# EAGLE library part 722-842/039-000 (library con-wago_7.5mm)
Serie 722, Federleiste mit Verriegelungsklinken / Series 722, Female connector with locking levers Polzahl / Pole No.: 12 Farbe / Color: lichtgrau / light gray Stand: 01.01.2012. Die jeweils aktuellen Daten zu diesem Artikel finden Sie in unserem Produktkatalog, den Sie unter www.wago.com einsehen können. As of: 01/01/2012. Please find the newest data for this article in our product catalogue, which can be viewed under www.wago.com.
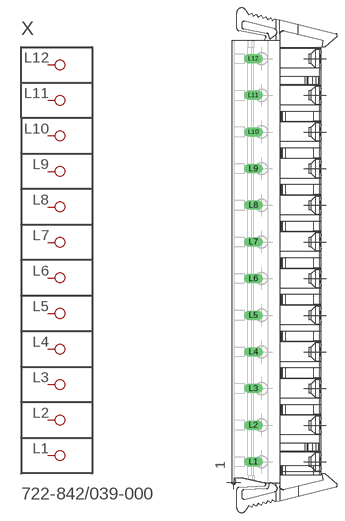
[diagram p53: symbol with the pads of P-722-842/039-000; footprint P-722-842/039-000]

Designator prefix X

## 722-842/039-000  [P-722-842/039-000]
L1  P1
L2  P2
L3  P3
L4  P4
L5  P5
L6  P6
L7  P7
L8  P8
L9  P9
L10  P10
L11  P11
L12  P12

## Footprint P-722-842/039-000 (pad centres in mm)
drill 1.3 long: L1 -5.872,-41.25; L2 -5.872,-33.75; L3 -5.872,-26.25; L4 -5.872,-18.75; L5 -5.872,-11.25; L6 -5.872,-3.75; L7 -5.872,3.75; L8 -5.872,11.25; L9 -5.872,18.75; L10 -5.872,26.25; L11 -5.872,33.75; L12 -5.872,41.25